# Altium footprint library Ring_Terminal.PcbLib: 1 footprints
Each footprint in its own frame and in the unit in brackets; x right, y up, seen from the top. Pads: shape width x height; smd on the part's side, far side on the other; paste and mask are expansions set on the pad; w line width, h text height; cw(c..) or ccw(c..) is an arc to the next point about the centre after c.
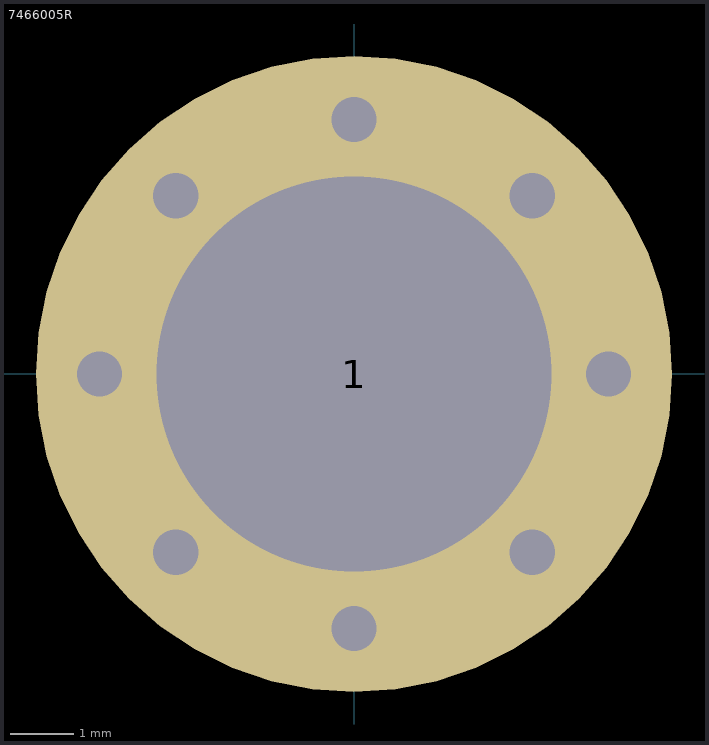
[diagram p0: the footprint, top view; thin cyan lines are the x and y axes]

## 7466005R [mm]
pads (1):
  round 10 hole 6.2 unplated: 1(0,0)
via 2.8,-2.8 diameter 1.27 hole 0.711
via -2.8,2.8 diameter 1.27 hole 0.711
via 2.8,2.8 diameter 1.27 hole 0.711
via -2.8,-2.8 diameter 1.27 hole 0.711
via -4,0 diameter 1.27 hole 0.711
via 4,0 diameter 1.27 hole 0.711
via 0,-4 diameter 1.27 hole 0.711
via 0,4 diameter 1.27 hole 0.711
3D body: height 1.27, standoff 0, extent 7.525,0.025 7.525,0.025
3D body: height 1.27, standoff 0, extent 0,0 0,0
3D body "Downloads_STP_7466005 (rev1).stp": height 5, standoff -1, extent -4.5,-4.491 4.465,4.491